# EAGLE library part WE-FB_EP7_SCH2 (library WE-FB)
WE-FB Flyback Transformer suitable for LT3573/ LT3574/ LT3575/ LT3748 Characteristics Easy design-in solution Less external components needed Small board space Low cost No optocoupler needed! Long term reliability voltage control No aging Same external parts for different output voltages Easy design of custom power supply due to standard circuit and change of transformers and two components for feedback loop Isolation voltage up to 2.5 kV Applications Isolated power design Sensor interfaces Isolated telecom converters Power over Ethernet <https://www.we-online.com/catalog/media/o35283v209%20Family_we-fb_LT%20Kits_gruppe.jpg> Details see: www.we-online.com/catalog/WE-FB <www.we-online.com/catalog/WE-FB/?utm_source=eagle_model&utm_medium=description_link&utm_campaign=eisos_eagle> Updated by Ella Wu 2022-07-21 2022 Wurth Elektronik
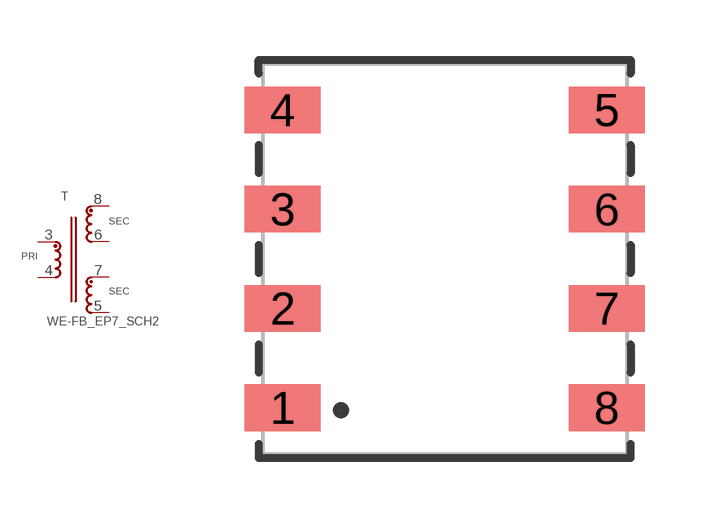
[diagram p15: symbol with the pads of WE-FB_EP7_P8.13; footprint WE-FB_EP7_P8.13]

Designator prefix T

## WE-FB_EP7_SCH2_750311692 (DATASHEET-URL: https://www.we-online.com/redexpert/spec/750311692?ae; IOUT: 0.001A/0.01A; ISAT: 1A; L: 80uH; LSMIN: 2uH; MOUNT: SMT; N: 1:5; PART-NUMBER: 750311692; VALUE: 750311692; VIN: 8-15V(DC); VOUT: 150V/150V; VT: 1500V(AC))  [WE-FB_EP7_P8.13]
3  1  pas
4  2  pas
5  3  pas
6  5  pas
7  4  pas
8  6  pas

## Footprint WE-FB_EP7_P8.13 (pad centres in mm)
WE-FB Flyback Transformer suitable for LT3573/ LT3574/ LT3575/ LT3748 Size: EP7 SMD 8Pin Pitch of PAD=8.13mm
smd 1.91 x 1.17: 1 -4.065,-3.735; 2 -4.065,-1.245; 3 -4.065,1.245; 4 -4.065,3.735; 5 4.065,3.735; 6 4.065,1.245; 7 4.065,-1.245; 8 4.065,-3.735